# EAGLE library part 618062325223 (library Input-Output_Connectors_rev15d)
WR-DSUB Female High Density Angled PCB Connector without Hex Screw, 62 Pins=>Code : Con_I-O_DSUB_PCB_Female_wo-screw_618062325223 <http://katalog.we-online.de/media/images/eican/Con_I-O_DSUB_PCB_Female_wo-screw_6180xx325223_pf2.jpg> Details see: http://katalog.we-online.de/en/em/618_0xx_325_223 Created 2014-07-10, Karrer Zheng 2014 (C) Würth Elektronik
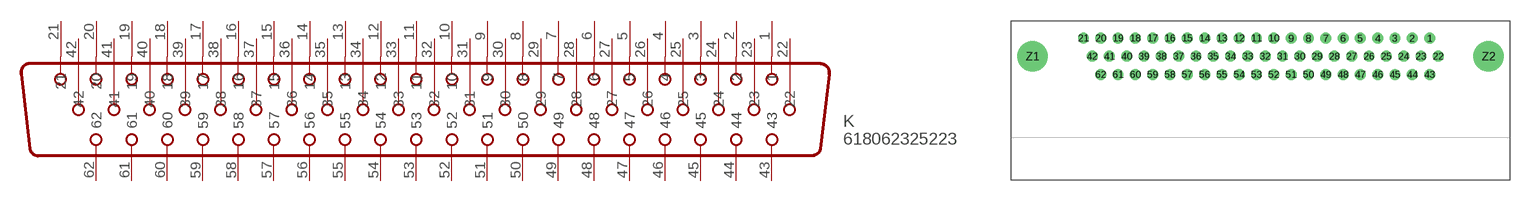
[diagram p63: symbol with the pads of 618062325223; footprint 618062325223]

Designator prefix K

## 618062325223  [618062325223]
1  1
2  2
3  3
4  4
5  5
6  6
7  7
8  8
9  9
10  10
11  11
12  12
13  13
14  14
15  15
16  16
17  17
18  18
19  19
20  20
21  21
22  22
23  23
24  24
25  25
26  26
27  27
28  28
29  29
30  30
31  31
32  32
33  33
34  34
35  35
36  36
37  37
38  38
39  39
40  40
41  41
42  42
43  43
44  44
45  45
46  46
47  47
48  48
49  49
50  50
51  51
52  52
53  53
54  54
55  55
56  56
57  57
58  58
59  59
60  60
61  61
62  62

## Footprint 618062325223 (pad centres in mm)
WR-DSUB Female High Density Angled PCB Connector without Hex Screw, 62 Pins
drill 1: 1 27.36,2.54; 2 24.95,2.54; 3 22.54,2.54; 4 20.13,2.54; 5 17.72,2.54; 6 15.31,2.54; 7 12.9,2.54; 8 10.49,2.54; 9 8.08,2.54; 10 5.67,2.54; 11 3.26,2.54; 12 0.85,2.54; 13 -1.56,2.54; 14 -3.97,2.54; 15 -6.38,2.54; 16 -8.79,2.54; 17 -11.2,2.54; 18 -13.61,2.54; 19 -16.02,2.54; 20 -18.43,2.54; 21 -20.84,2.54; 22 28.56,0; 23 26.15,0; 24 23.74,0; 25 21.33,0; 26 18.92,0; 27 16.51,0; 28 14.1,0; 29 11.69,0; 30 9.28,0; 31 6.87,0; 32 4.46,0; 33 2.05,0; 34 -0.36,0; 35 -2.77,0; 36 -5.18,0; 37 -7.59,0; 38 -10,0; 39 -12.41,0; 40 -14.82,0; 41 -17.23,0; 42 -19.63,0; 43 27.36,-2.54; 44 24.95,-2.54; 45 22.54,-2.54; 46 20.13,-2.54; 47 17.72,-2.54; 48 15.31,-2.54; 49 12.9,-2.54; 50 10.49,-2.54; 51 8.08,-2.54; 52 5.67,-2.54; 53 3.26,-2.54; 54 0.85,-2.54; 55 -1.56,-2.54; 56 -3.97,-2.54; 57 -6.38,-2.54; 58 -8.79,-2.54; 59 -11.2,-2.54; 60 -13.61,-2.54; 61 -16.02,-2.54; 62 -18.43,-2.54
drill 3.2: Z1 -27.94,0; Z2 35.56,0